# Altium footprint library 52892-1495-C.PcbLib: 1 footprints
Each footprint in its own frame and in the unit in brackets; x right, y up, seen from the top. Pads: shape width x height; smd on the part's side, far side on the other; paste and mask are expansions set on the pad; w line width, h text height; cw(c..) or ccw(c..) is an arc to the next point about the centre after c.
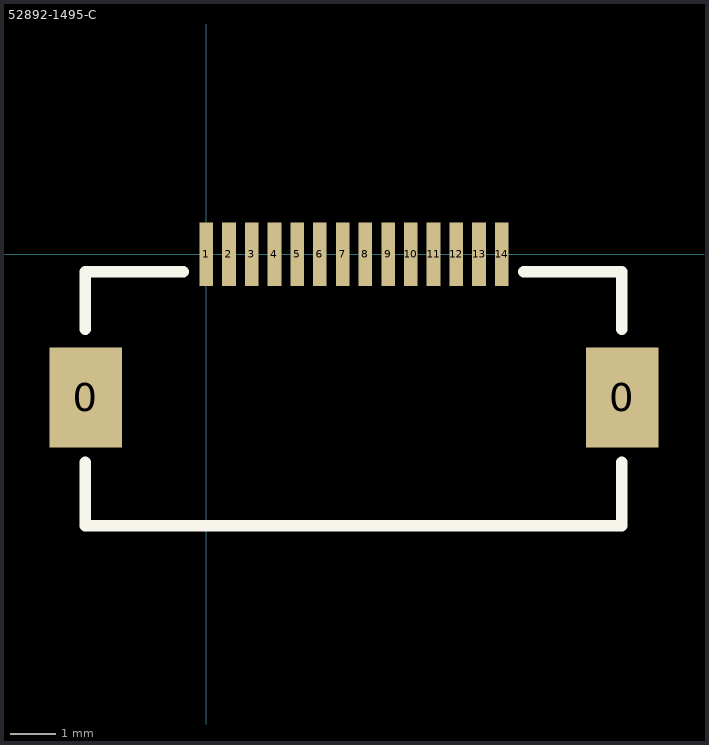
[diagram p0: the footprint, top view; thin cyan lines are the x and y axes]

## 52892-1495-C [mm] "Molex 14P .5MM FPC SMD Connector"
pads (16):
  rect 1.6x2.2 smd: 0(-2.65,-3.15) 0(9.15,-3.15)
  rect 0.3x1.4 smd: 1(0,0) 2(0.5,0) 3(1,0) 4(1.5,0) 5(2,0) 6(2.5,0) 7(3,0) 8(3.5,0) 9(4,0) 10(4.5,0) 11(5,0) 12(5.5,0) 13(6,0) 14(6.5,0)
Top Overlay:
  lines w0.254: -2.667,-4.572 -2.667,-5.969 9.144,-5.969 9.144,-4.572 ; -2.667,-1.651 -2.667,-0.381 -0.508,-0.381 ; 6.985,-0.381 9.144,-0.381 9.144,-1.651